# Altium integrated library L7805CDTTR.IntLib: 1 symbol
Pins are listed as number, name and electrical type; pins without a type are passive.

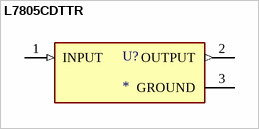
[diagram p0: symbol L7805CDTTR]

## L7805CDTTR
designator U?
LINEAR VOLT REG, 5V, 1.5A, TO-252-3; Fixed Output Voltage Nom.:5V; Adjustable Output Voltage Min:-; Adjustable Output Voltage Max:-; Input Voltage Min:10V; Input Voltage Max:35V; Product Range:5V 1.5A Linear Voltage Regulators; Output Current:1.5A; Output; MF: STMicroelectronics; MP: L7805CDTTR; SnapEDA_Link: https://www.snapeda.com/parts/L7805CDTTR/STMicroelectronics/view-part/?ref=snap; Package: None; Value: *; Check_prices: https://www.snapeda.com/parts/L7805CDTTR/STMicroelectronics/view-part/?ref=eda
footprint VREG_L7805CDTTR
pins: 1 INPUT (in), 2 OUTPUT (out), 3 GROUND (power)